# Altium footprint library capacitor.PcbLib: 4 footprints
Each footprint in its own frame and in the unit in brackets; x right, y up, seen from the top. Pads: shape width x height; smd on the part's side, far side on the other; paste and mask are expansions set on the pad; w line width, h text height; cw(c..) or ccw(c..) is an arc to the next point about the centre after c.
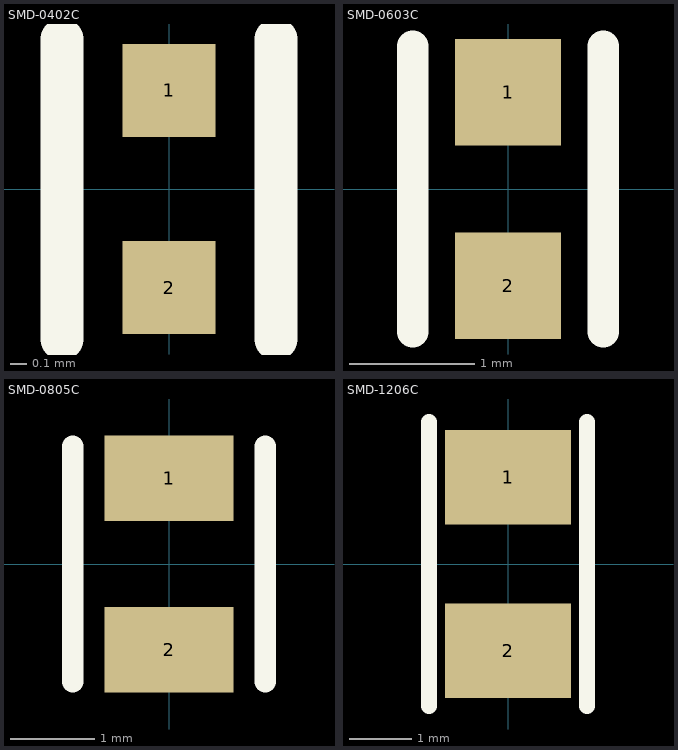
[diagram p0: the footprints below, top view; thin cyan lines are the x and y axes]

## SMD-0402C [mm]
pads (2):
  rect 0.55x0.55 smd: 1(0,0.584) 2(0,-0.584)
Top Overlay:
  lines w0.254: -0.635,-0.889 -0.635,0.889 ; 0.635,-0.889 0.635,0.889
3D body "capacitor 0402.step": height 0.51, standoff 0, extent -0.254,-0.508 0.254,0.508

## SMD-0603C [mm]
pads (2):
  rect 0.85x0.85 smd: 1(0,0.775) 2(0,-0.775)
Top Overlay:
  lines w0.254: -0.762,-1.143 -0.762,1.143 ; 0.762,-1.143 0.762,1.143
3D body "capacitor 0603.step": height 0.9, standoff 0, extent -0.4,-0.8 0.4,0.8

## SMD-0805C [mil]
pads (2):
  rect 60x40 smd: 1(0,40) 2(0,-40)
Top Overlay:
  lines w10: -45,-55 -45,55 ; 45,-55 45,55
3D body "capacitor 0805.step": height 35.43, standoff 0, extent -24.6,-39.36 24.6,39.38

## SMD-1206C [mil]
pads (2):
  rect 80x60 smd: 1(0,55) 2(0,-55)
Top Overlay:
  lines w10: -50,-90 -50,90 ; 50,-90 50,90
3D body "capacitor 1206.step": height 39.37, standoff 0, extent -31.49,-62.99 31.5,63